# Altium schematic symbol library G3MB-202P.SchLib: 1 symbol
Pins are listed as number, name and electrical type; pins without a type are passive.

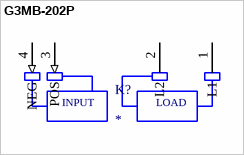
[diagram p0: symbol G3MB-202P]

## G3MB-202P
designator K?
Zero cross solid state relay, 2A 5Vdc; MP: G3MB-202P; MF: {'manufacturer': u'Omron Automation'}; Value: *; Price: None; Availability: Unavailable; Package: None
footprint RELAY_G3MB-202P
pins: 1 L1, 2 L2, 3 POS (in), 4 NEG (in)
text: INPUT; LOAD